# Altium schematic symbol library Alex_1_5_2017.SchLib: 1 symbol
Pins are listed as number, name and electrical type; pins without a type are passive.

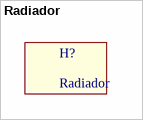
[diagram p0: symbol Radiador]

## Radiador
designator H?
footprint Radiador
footprint Radiador1 (Radiador vertical para formato TO...)
footprint RadiadorTO220_H
footprint Radiador_SK514
footprint Radiador_VerticalTO220 (Radiador vertical to220 alto)
footprint Radiador_TO220_H (Radiador TO220 horizontal)